# EAGLE library part GAL22V10 (library TheLittleEngineers_org-CC3-SpeedBump-V1R1-03-30-1987)
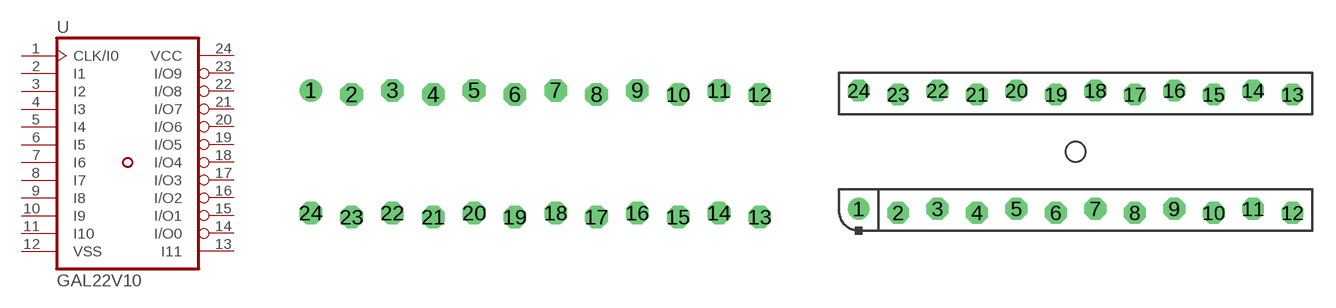
[diagram p1: symbol with the pads of DIL24-3-BOTTOM-MINIMAL-OUTLINE-1-STAGGERED; footprints DIL24-3-BOTTOM-MINIMAL-OUTLINE-1-STAGGERED, DIL24-3-TOP-MINIMAL-OUTLINE-1-STAGGERED]

Designator prefix U

## GAL22V10N-BMO1S  [DIL24-3-BOTTOM-MINIMAL-OUTLINE-1-STAGGERED]
1  CLK/I0  in
2  I1  in
3  I2  in
4  I3  in
5  I4  in
6  I5  in
7  I6  in
8  I7  in
9  I8  in
10  I9  in
11  I10  in
12  VSS
13  I11  in
14  I/O0
15  I/O1
16  I/O2
17  I/O3
18  I/O4
19  I/O5
20  I/O6
21  I/O7
22  I/O8
23  I/O9
24  VCC

## GAL22V10N-TMO1S  [DIL24-3-TOP-MINIMAL-OUTLINE-1-STAGGERED]
Pads as for DIL24-3-BOTTOM-MINIMAL-OUTLINE-1-STAGGERED

## Footprint DIL24-3-BOTTOM-MINIMAL-OUTLINE-1-STAGGERED (pad centres in mm)
drill 0.9 round: 1 -13.97,3.937
drill 0.9 octagon: 2 -11.43,3.683; 3 -8.89,3.937; 4 -6.35,3.683; 5 -3.81,3.937; 6 -1.27,3.683; 7 1.27,3.937; 8 3.81,3.683; 9 6.35,3.937; 10 8.89,3.683; 11 11.43,3.937; 12 13.97,3.683; 13 13.97,-3.937; 14 11.43,-3.683; 15 8.89,-3.937; 16 6.35,-3.683; 17 3.81,-3.937; 18 1.27,-3.683; 19 -1.27,-3.937; 20 -3.81,-3.683; 21 -6.35,-3.937; 22 -8.89,-3.683; 23 -11.43,-3.937; 24 -13.97,-3.683

## Footprint DIL24-3-TOP-MINIMAL-OUTLINE-1-STAGGERED (pad centres in mm)
drill 0.9 round: 1 -13.97,-3.683
drill 0.9 octagon: 2 -11.43,-3.937; 3 -8.89,-3.683; 4 -6.35,-3.937; 5 -3.81,-3.683; 6 -1.27,-3.937; 7 1.27,-3.683; 8 3.81,-3.937; 9 6.35,-3.683; 10 8.89,-3.937; 11 11.43,-3.683; 12 13.97,-3.937; 13 13.97,3.683; 14 11.43,3.937; 15 8.89,3.683; 16 6.35,3.937; 17 3.81,3.683; 18 1.27,3.937; 19 -1.27,3.683; 20 -3.81,3.937; 21 -6.35,3.683; 22 -8.89,3.937; 23 -11.43,3.683; 24 -13.97,3.937